# EAGLE library part 10159558-410421RLF (library 10159558-410421RLF)
ComboStak® Vertical Header 2P 10S 2P Height 4.3mm Source: Datasheet <https://cdn.amphenol-cs.com/media/wysiwyg/files/documentation/datasheet/boardwiretoboard/bwb_combostak_powerstak.pdf>
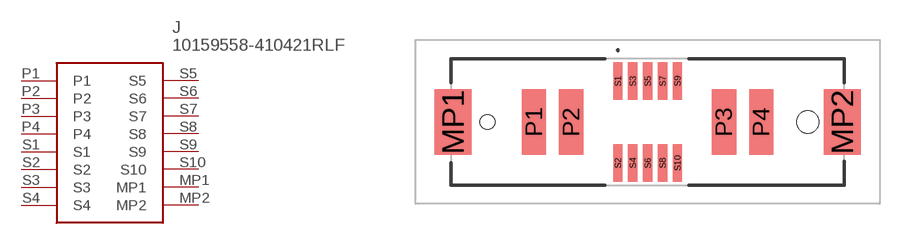
[diagram p0: symbol with the pads of 10159558410421RLF; footprint 10159558410421RLF]

Designator prefix J

## 10159558-410421RLF (Description: ComboStak<sup>&reg;</sup> Vertical Header 2P 10S 2P Height 4.3mm; Height: 8.2mm; Manufacturer_Name: Amphenol Communications Solutions; Manufacturer_Part_Number: 10159558-410421RLF; Mouser_Part_Number: 649-1015955841421RLF; Mouser_Price-Stock: https://www.mouser.co.uk/ProductDetail/Amphenol-FCI/10159558-410421RLF?qs=QNEnbhJQKva7HjZyp6dv%2Fw%3D%3D)  [10159558410421RLF]
MP1  MP1
MP2  MP2
P1  P1
P2  P2
P3  P3
P4  P4
S1  S1
S2  S2
S3  S3
S4  S4
S5  S5
S6  S6
S7  S7
S8  S8
S9  S9
S10  S10

## Footprint 10159558410421RLF (pad centres in mm)
10159558-410421RLF-2
smd 2 x 3.5: MP1 -10.45,0; MP2 10.45,0
smd 1.3 x 3.5: P1 -6.1,0; P2 -4.1,0; P3 4.1,0; P4 6.1,0
smd 0.5 x 2: S1 -1.6,2.2; S2 -1.6,-2.2; S3 -0.8,2.2; S4 -0.8,-2.2; S5 0,2.2; S6 0,-2.2; S7 0.8,2.2; S8 0.8,-2.2; S9 1.6,2.2; S10 1.6,-2.2
hole 0.8 at -8.6,0
hole 1.2 at 8.6,0